# Altium footprint library Connectors.PcbLib: 69 footprints (part 5 of 5)
Each footprint in its own frame and in the unit in brackets; x right, y up, seen from the top. Pads: shape width x height; smd on the part's side, far side on the other; paste and mask are expansions set on the pad; w line width, h text height; cw(c..) or ccw(c..) is an arc to the next point about the centre after c.
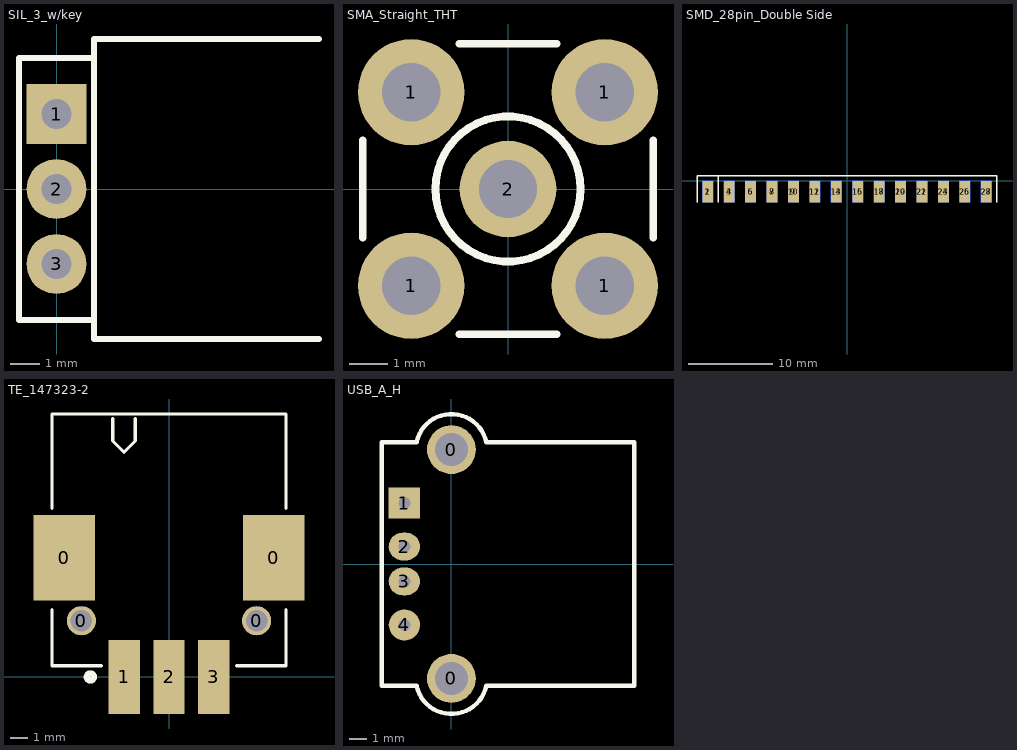
[diagram p4: the footprints below, top view; thin cyan lines are the x and y axes]

## SIL_3_w/key [mil] "Obudowa 3 pin pozioma z kluczem"
height 300
pads (3):
  rect 80x80 hole 40: 1(0,100)
  round 80 hole 40: 2(0,0) 3(0,-100)
Top Overlay:
  lines w8: 350,-200 50,-200 50,-175 ; 350,200 50,200 50,175 ; 50,-175 50,175 ; 50,-175 -50,-175 -50,175 50,175

## SMA_Straight_THT [mil] "SMA Female Socket (THT)"
height 550
pads (5):
  round 110 hole 60 mask+3.15: 1(-100,-100) 1(-100,100) 1(100,-100) 1(100,100)
  round 100 hole 60 mask+3.15: 2(0,0)
Top Overlay:
  circle w8: c0,0 r75
  lines w8: -150,-50 -150,50 ; -50,-150 50,-150 ; -50,150 50,150 ; 150,-50 150,50
3D body "SMA_Stright_THT_F.STEP": height 481.5, standoff -50, extent -127.95,-127.95 127.95,127.96

## SMD_28pin_Double Side [mil] "SMD dwustronny pod goldpiny"
height 50
pads (28):
  rect 50x100 smd: 1(-650,-50) 3(-550,-50) 5(-450,-50) 7(-350,-50) 9(-250,-50) 11(-150,-50) 13(-50,-50) 15(50,-50) 17(150,-50) 19(250,-50) 21(350,-50) 23(450,-50) 25(550,-50) 27(650,-50)
  rect 50x100 smd far side: 2(-650,-50) 4(-550,-50) 6(-450,-50) 8(-350,-50) 10(-250,-50) 12(-150,-50) 14(-50,-50) 16(50,-50) 18(150,-50) 20(250,-50) 22(350,-50) 24(450,-50) 26(550,-50) 28(650,-50)
Top Overlay:
  lines w7: -700,-100 -700,25 700,25 700,-100 ; -600,-100 -600,25

## TE_147323-2 [mil] "AMPMODU MTE 3pin"
height 276
pads (7):
  rect 136x190 smd: 0(-233,265) 0(233,265)
  round 65 / inner round 65 / far side round 100 hole 47.24: 0(-195,125) 0(195,125)
  rect 70x165 smd: 1(-100,0) 2(0,0) 3(100,0)
Top Overlay:
  circle w13.78: c-175,0 r7.87
  lines w7: -260,150 -260,25 -150,25 ; -260,375 -260,585 260,585 260,375 ; -125,575 -125,525 -100,500 -75,525 -75,575 ; 150,25 260,25 260,150
3D body "147323-2_3pin.STEP": height 290.84, standoff -37.98, extent -263.52,-75 263.52,580.12

## USB_A_H [mm] "Typ A Horizontal THT"
height 8
pads (6):
  round 2.8 hole 1.9: 0(0,-6.57) 0(0,6.57)
  rect 1.8x1.8 hole 0.7: 1(-2.7,3.5)
  oval 1.8x1.6 hole 0.7: 2(-2.7,1) 3(-2.7,-1)
  round 1.8 hole 0.7: 4(-2.7,-3.5)
Top Overlay:
  lines w0.254: -4,-7 -2,-7 ccw(c0,-6.57) 2,-7 10.5,-7 10.5,7 2,7 ccw(c0,6.57) -2,7 -4,7 -4,-7